# Altium footprint library exBoard.PcbLib: 28 footprints (part 1 of 2)
Each footprint in its own frame and in the unit in brackets; x right, y up, seen from the top. Pads: shape width x height; smd on the part's side, far side on the other; paste and mask are expansions set on the pad; w line width, h text height; cw(c..) or ccw(c..) is an arc to the next point about the centre after c.
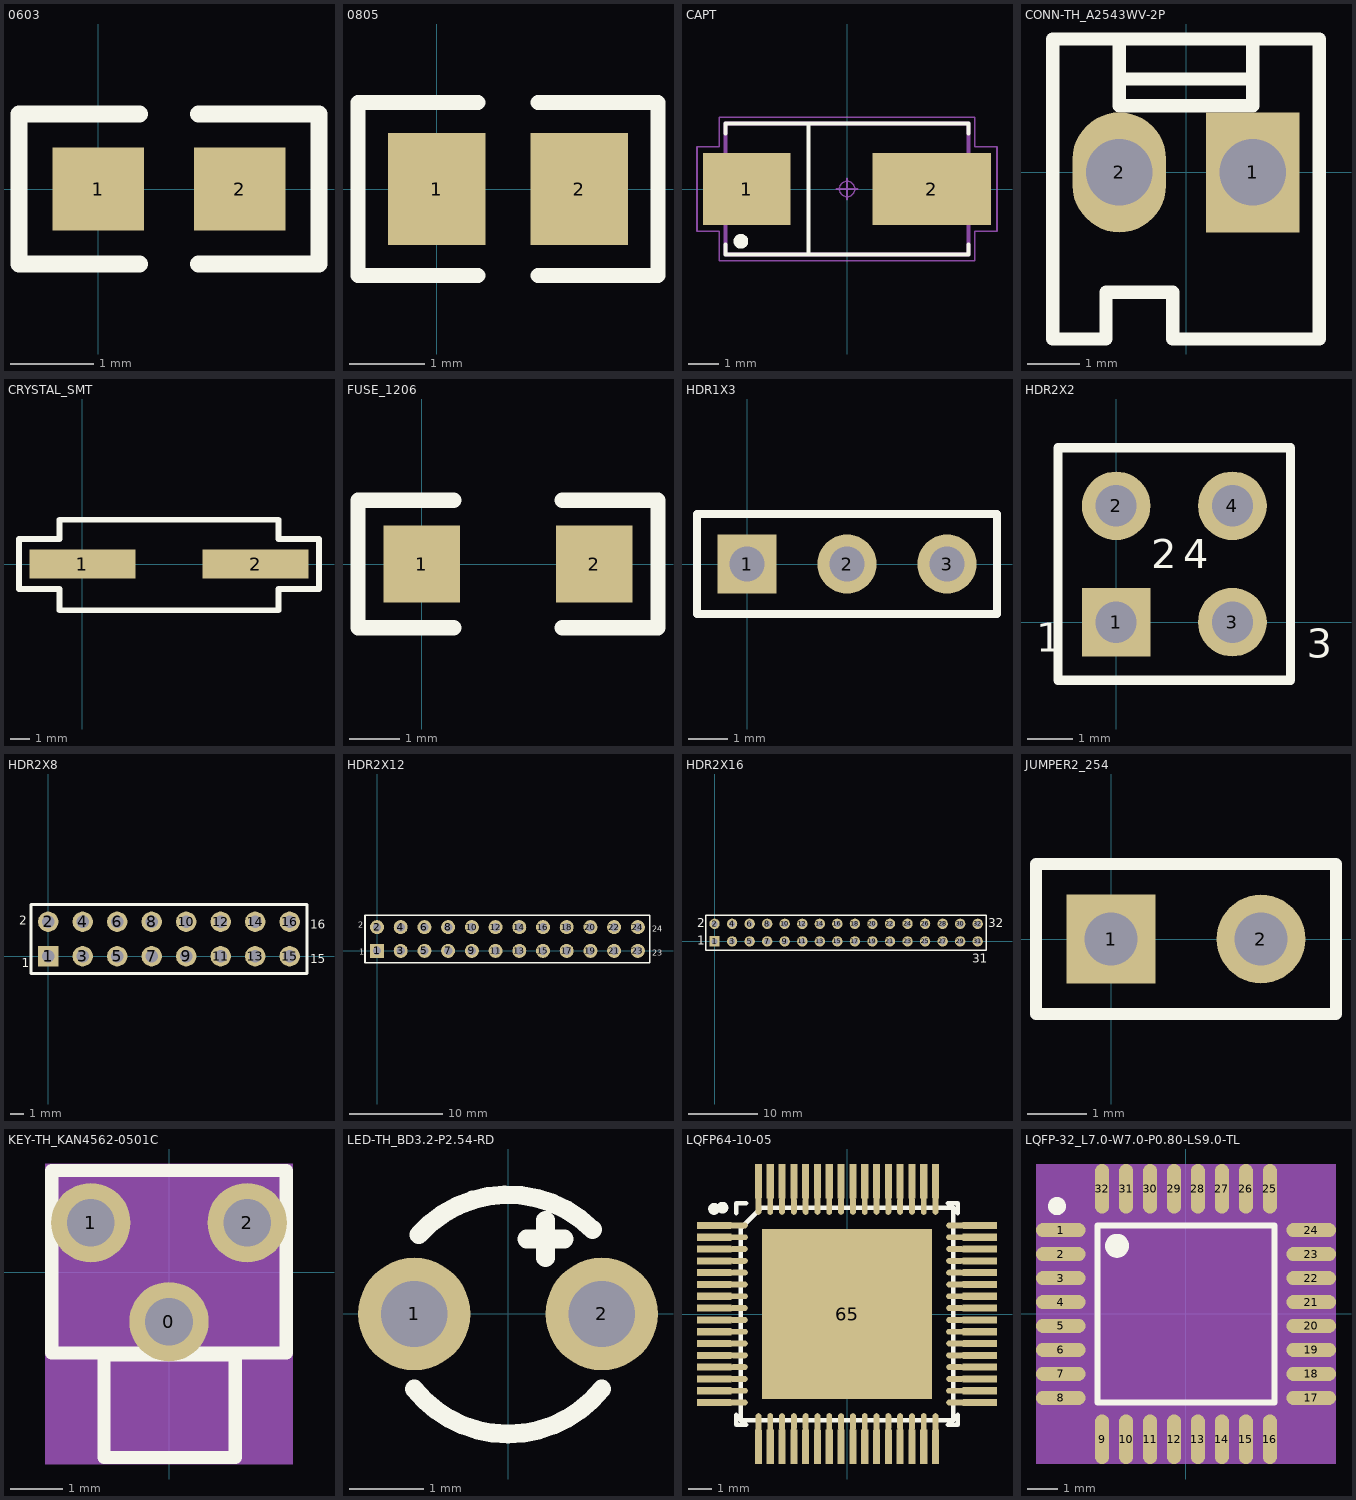
[diagram p0: the footprints below, top view; thin cyan lines are the x and y axes]

## 0603 [mm]
height 1
pads (2):
  rect 1.1x1 smd: 1(0,0) 2(1.7,0)
Top Overlay:
  lines w0.2: 0.5,-0.9 -0.95,-0.9 -0.95,0.9 0.5,0.9 ; 1.2,-0.9 2.65,-0.9 2.65,0.9 1.2,0.9

## 0805 [mm]
height 1
pads (2):
  rect 1.3x1.5 smd: 1(0,0) 2(1.9,0)
Top Overlay:
  lines w0.2: 0.55,-1.15 -1.05,-1.15 -1.05,1.15 0.55,1.15 ; 1.35,-1.15 2.95,-1.15 2.95,1.15 1.35,1.15

## CAPT [mm] "Capacitor, Polarized, Molded Body; 7.85 mm L X 4.20 mm W X 2.65 mm H body"
height 2.65
pads (2):
  rect 2.84x2.35 smd: 1(-3.255,0)
  rect 3.84x2.35 smd: 2(2.755,0)
Top Overlay:
  circle w0.254: c-3.45,-1.7 r0.112
  lines w0.12: -3.95,-1.8 -3.95,-2.13 3.95,-2.13 3.95,-1.8 ; -3.95,1.8 -3.95,2.13 3.95,2.13 3.95,1.8 ; -1.25,-2.13 -1.25,2.1
Mechanical 11:
  lines w0.12: -3.95,-2.13 -3.95,2.13 3.95,2.13 3.95,-2.13 -3.95,-2.13
Mechanical 12:
  lines w0.025: -4.125,-1.125 -2.025,-1.125 -2.025,1.125 -4.125,1.125 -4.125,-1.125 ; -3.925,-2.1 -3.925,2.1 3.925,2.1 3.925,-2.1 -3.925,-2.1 ; 1.025,-1.125 1.025,1.125 4.125,1.125 4.125,-1.125 1.025,-1.125
Mechanical 15:
  circle w0.05: c0,0 r0.25
  lines w0.05: -0.35,0 0.35,0 ; 0,-0.35 0,0.35 ; -4.875,-1.375 -4.875,1.375 -4.15,1.375 -4.15,2.33 4.15,2.33 4.15,1.375 4.875,1.375 4.875,-1.375 4.15,-1.375 4.15,-2.33 -4.15,-2.33 -4.15,-1.375 -4.875,-1.375
3D body: height 2, standoff 0, extent -3.81,-2.3 3.79,2.3

## CONN-TH_A2543WV-2P [mil]
pads (2):
  rect 70x90 hole 50: 1(50,0)
  oval 70x90 hole 50: 2(-50,0)
Top Overlay:
  lines w10: -50,70 50,70 ; -50,100 -50,50 50,50 50,100 ; -100,-125 -60,-125 -60,-90 -10,-90 -9.9,-125 100,-125 100,100 -100,100 -100,-125

## CRYSTAL_SMT [mm] "Surface Mount Crystal"
height 4.2
pads (2):
  rect 5.5x1.5 smd: 1(0,0) 2(9,0)
Top Overlay:
  lines w0.3: -3.3,-1.3 -1.2,-1.3 -1.2,-2.4 10.2,-2.4 10.2,-1.3 12.3,-1.3 12.3,1.3 10.2,1.3 10.2,2.3 -1.2,2.3 -1.2,1.3 -3.3,1.3 -3.3,-1.3

## FUSE_1206 [mil]
height 307.09
pads (2):
  rect 60x60 smd: 1(0,0) 2(135,0)
Top Overlay:
  lines w12: 25,-50 -50,-50 -50,50 25,50 ; 110,-50 185,-50 185,50 110,50

## HDR1X3 [mm] "Connector; Header; 3 Position"
pads (3):
  rect 1.5x1.5 hole 0.9: 1(0,0)
  round 1.5 hole 0.9: 2(2.54,0) 3(5.08,0)
Top Overlay:
  lines w0.2: -1.27,-1.27 -1.27,1.27 6.35,1.27 6.35,-1.27 -1.27,-1.27

## HDR2X2 [mm] "Connector; Header; 2x2 Position"
pads (4):
  rect 1.5x1.5 hole 0.9: 1(0,0)
  round 1.5 hole 0.9: 2(0,2.54) 3(2.54,0) 4(2.54,2.54)
Top Overlay:
  lines w0.2: -1.27,-1.27 -1.27,3.81 3.81,3.81 3.81,-1.27 -1.27,-1.27
  text "1" at -1.75,-0.649 h0.64
  text "2" at 0.766,1.176 h0.64
  text "4" at 1.465,1.176 h0.64
  text "3" at 4.167,-0.774 h0.64

## HDR2X8 [mm] "Connector; Header; 8x2 Position"
pads (16):
  rect 1.5x1.5 hole 0.9: 1(0,0)
  round 1.5 hole 0.9: 2(0,2.54) 3(2.54,0) 4(2.54,2.54) 5(5.08,0) 6(5.08,2.54) 7(7.62,0) 8(7.62,2.54) 9(10.16,0) 10(10.16,2.54) 11(12.7,0) 12(12.7,2.54) 13(15.24,0) 14(15.24,2.54) 15(17.78,0) 16(17.78,2.54)
Top Overlay:
  lines w0.2: -1.27,-1.27 19.05,-1.27 19.05,3.81 -1.27,3.81 -1.27,-1.27
  text "16" at 19.304,2.032 h0.64
  text "15" at 19.304,-0.508 h0.64
  text "1" at -1.947,-0.798 h0.64
  text "2" at -2.148,2.311 h0.64

## HDR2X12 [mm] "Connector; Header; 12x2 Position"
pads (24):
  rect 1.5x1.5 hole 0.9: 1(0,0)
  round 1.5 hole 0.9: 2(0,2.54) 3(2.54,0) 4(2.54,2.54) 5(5.08,0) 6(5.08,2.54) 7(7.62,0) 8(7.62,2.54) 9(10.16,0) 10(10.16,2.54) 11(12.7,0) 12(12.7,2.54) 13(15.24,0) 14(15.24,2.54) 15(17.78,0) 16(17.78,2.54) 17(20.32,0) 18(20.32,2.54) 19(22.86,0) 20(22.86,2.54) 21(25.4,0) 22(25.4,2.54) 23(27.94,0) 24(27.94,2.54)
Top Overlay:
  lines w0.2: -1.27,-1.27 29.21,-1.27 29.21,3.81 -1.27,3.81 -1.27,-1.27
  text "24" at 29.464,2.032 h0.64
  text "23" at 29.464,-0.508 h0.64
  text "2" at -2.036,2.497 h0.64
  text "1" at -1.923,-0.392 h0.64

## HDR2X16 [mm] "Connector; Header; 16x2 Position"
pads (32):
  rect 1.5x1.5 hole 0.9: 1(0,0)
  round 1.5 hole 0.9: 2(0,2.54) 3(2.54,0) 4(2.54,2.54) 5(5.08,0) 6(5.08,2.54) 7(7.62,0) 8(7.62,2.54) 9(10.16,0) 10(10.16,2.54) 11(12.7,0) 12(12.7,2.54) 13(15.24,0) 14(15.24,2.54) 15(17.78,0) 16(17.78,2.54) 17(20.32,0) 18(20.32,2.54) 19(22.86,0) 20(22.86,2.54) 21(25.4,0) 22(25.4,2.54) 23(27.94,0) 24(27.94,2.54) 25(30.48,0) 26(30.48,2.54) 27(33.02,0) 28(33.02,2.54) 29(35.56,0) 30(35.56,2.54) 31(38.1,0) 32(38.1,2.54)
Top Overlay:
  lines w0.2: -1.27,-1.27 39.37,-1.27 39.37,3.81 -1.27,3.81 -1.27,-1.27
  text "2" at -2.54,2.032 h1.27
  text "1" at -2.54,-0.508 h1.27
  text "31" at 37.308,-3.114 h1.27
  text "32" at 39.624,2.032 h1.27

## JUMPER2_254 [mm]
height 8
pads (2):
  rect 1.5x1.5 hole 0.9: 1(0,0)
  round 1.5 hole 0.9: 2(2.54,0)
Top Overlay:
  lines w0.2: -1.27,-1.27 3.81,-1.27 3.81,1.27 -1.27,1.27 -1.27,-1.27

## KEY-TH_KAN4562-0501C [mil]
pads (3):
  round 60 hole 36: 0(-0.01,-37.4) 1(-59.05,37.4) 2(59.05,37.4)
Top Overlay:
  lines w10: -88.58,-61.03 -88.58,76.77 88.58,76.77 88.58,-61.03 -88.58,-61.03 ; -49.22,-140 -49.22,-62.6 50.01,-62.6 50.01,-140 -49.22,-140
Mechanical 4:
  region: -93.58,81.77 93.58,81.77 93.58,-145 -93.58,-145
Mechanical 5:
  region: -30,-7.4 30,-7.4 30,-67.4 -30,-67.4
  region: 29.05,67.4 89.06,67.4 89.06,7.4 29.05,7.4
  region: -89.06,67.4 -29.05,67.4 -29.05,7.4 -89.06,7.4

## LED-TH_BD3.2-P2.54-RD [mil]
pads (2):
  round 60 hole 35.43: 1(-50,0) 2(50,0)
Top Overlay:
  lines w10: -50,-40 ccw(c0,0) 50,-40 ; -47.56,42.28 cw(c0,0) 45,45 ; 10,40 30,40 ; 20,30 20,50

## LQFP64-10-05 [mm] "LQFP64 10 x 10 x 1.4mm"
height 1.4
pads (129):
  rect 1.45x0.3 smd: 1(-5.625,3.75) 2(-5.625,3.25) 3(-5.625,2.75) 4(-5.625,2.25) 5(-5.625,1.75) 6(-5.625,1.25) 7(-5.625,0.75) 8(-5.625,0.25) 9(-5.625,-0.25) 10(-5.625,-0.75) 11(-5.625,-1.25) 12(-5.625,-1.75) 13(-5.625,-2.25) 14(-5.625,-2.75) 15(-5.625,-3.25) 16(-5.625,-3.75) 33(5.625,-3.75) 34(5.625,-3.25) 35(5.625,-2.75) 36(5.625,-2.25) 37(5.625,-1.75) 38(5.625,-1.25) 39(5.625,-0.75) 40(5.625,-0.25) 41(5.625,0.25) 42(5.625,0.75) 43(5.625,1.25) 44(5.625,1.75) 45(5.625,2.25) 46(5.625,2.75) 47(5.625,3.25) 48(5.625,3.75)
  oval 0.75x0.25 smd: 1(-4.575,3.75) 2(-4.575,3.25) 3(-4.575,2.75) 4(-4.575,2.25) 5(-4.575,1.75) 6(-4.575,1.25) 7(-4.575,0.75) 8(-4.575,0.25) 9(-4.575,-0.25) 10(-4.575,-0.75) 11(-4.575,-1.25) 12(-4.575,-1.75) 13(-4.575,-2.25) 14(-4.575,-2.75) 15(-4.575,-3.25) 16(-4.575,-3.75) 33(4.575,-3.75) 34(4.575,-3.25) 35(4.575,-2.75) 36(4.575,-2.25) 37(4.575,-1.75) 38(4.575,-1.25) 39(4.575,-0.75) 40(4.575,-0.25) 41(4.575,0.25) 42(4.575,0.75) 43(4.575,1.25) 44(4.575,1.75) 45(4.575,2.25) 46(4.575,2.75) 47(4.575,3.25) 48(4.575,3.75)
  oval 0.25x0.75 smd: 17(-3.75,-4.575) 18(-3.25,-4.575) 19(-2.75,-4.575) 20(-2.25,-4.575) 21(-1.75,-4.575) 22(-1.25,-4.575) 23(-0.75,-4.575) 24(-0.25,-4.575) 25(0.25,-4.575) 26(0.75,-4.575) 27(1.25,-4.575) 28(1.75,-4.575) 29(2.25,-4.575) 30(2.75,-4.575) 31(3.25,-4.575) 32(3.75,-4.575) 49(3.75,4.575) 50(3.25,4.575) 51(2.75,4.575) 52(2.25,4.575) 53(1.75,4.575) 54(1.25,4.575) 55(0.75,4.575) 56(0.25,4.575) 57(-0.25,4.575) 58(-0.75,4.575) 59(-1.25,4.575) 60(-1.75,4.575) 61(-2.25,4.575) 62(-2.75,4.575) 63(-3.25,4.575) 64(-3.75,4.575)
  rect 0.3x1.45 smd: 17(-3.75,-5.625) 18(-3.25,-5.625) 19(-2.75,-5.625) 20(-2.25,-5.625) 21(-1.75,-5.625) 22(-1.25,-5.625) 23(-0.75,-5.625) 24(-0.25,-5.625) 25(0.25,-5.625) 26(0.75,-5.625) 27(1.25,-5.625) 28(1.75,-5.625) 29(2.25,-5.625) 30(2.75,-5.625) 31(3.25,-5.625) 32(3.75,-5.625) 49(3.75,5.625) 50(3.25,5.625) 51(2.75,5.625) 52(2.25,5.625) 53(1.75,5.625) 54(1.25,5.625) 55(0.75,5.625) 56(0.25,5.625) 57(-0.25,5.625) 58(-0.75,5.625) 59(-1.25,5.625) 60(-1.75,5.625) 61(-2.25,5.625) 62(-2.75,5.625) 63(-3.25,5.625) 64(-3.75,5.625)
  rect 7.2x7.2 smd: 65(0,0)
Top Overlay:
  circle w0.25: c-5.625,4.45 r0.125
  lines w0.2: -4.69,-4.275 -4.69,-4.69 -4.275,-4.69 ; -4.69,4.275 -4.69,4.69 -4.275,4.69 ; 4.275,-4.69 4.69,-4.69 4.69,-4.275 ; 4.275,4.69 4.69,4.69 4.69,4.275 ; -4.5,-4.5 -4.5,3.625 -3.625,4.5 4.5,4.5 4.5,-4.5 -4.5,-4.5
  lines w0.249: -5.15,4.498 cw(c-5.274,4.499) -5.15,4.5

## LQFP-32_L7.0-W7.0-P0.80-LS9.0-TL [mm]
pads (32):
  oval 1.65x0.48 smd: 1(-4.176,2.799) 2(-4.176,1.999) 3(-4.176,1.199) 4(-4.176,0.399) 5(-4.176,-0.399) 6(-4.176,-1.199) 7(-4.176,-1.999) 8(-4.176,-2.799) 17(4.176,-2.799) 18(4.176,-1.999) 19(4.176,-1.199) 20(4.176,-0.399) 21(4.176,0.399) 22(4.176,1.199) 23(4.176,1.999) 24(4.176,2.799)
  oval 0.48x1.65 smd: 9(-2.799,-4.176) 10(-1.999,-4.176) 11(-1.199,-4.176) 12(-0.399,-4.176) 13(0.399,-4.176) 14(1.199,-4.176) 15(1.999,-4.176) 16(2.799,-4.176) 25(2.799,4.176) 26(1.999,4.176) 27(1.199,4.176) 28(0.399,4.176) 29(-0.399,4.176) 30(-1.199,4.176) 31(-1.999,4.176) 32(-2.799,4.176)
Top Overlay:
  lines w0.2: -2.95,-2.95 2.95,-2.95 2.95,2.95 -2.95,2.95 -2.95,-2.95
  lines w0.3: -4.15,3.597 cw(c-4.3,3.598) -4.15,3.599
  lines w0.4: -2.101,2.271 cw(c-2.3,2.273) -2.101,2.276
Mechanical 4:
  region: -5.001,5.001 5.001,5.001 5.001,-5.001 -5.001,-5.001
Mechanical 5:
  region: -5.001,3.039 -3.351,3.039 -3.351,2.559 -5.001,2.559
  region: -5.001,2.239 -3.351,2.239 -3.351,1.759 -5.001,1.759
  region: -5.001,1.439 -3.351,1.439 -3.351,0.959 -5.001,0.959
  region: -5.001,0.639 -3.351,0.639 -3.351,0.159 -5.001,0.159
  region: -5.001,-0.159 -3.351,-0.159 -3.351,-0.639 -5.001,-0.639
  region: -5.001,-0.959 -3.351,-0.959 -3.351,-1.439 -5.001,-1.439
  region: -5.001,-1.759 -3.351,-1.759 -3.351,-2.239 -5.001,-2.239
  region: -5.001,-2.559 -3.351,-2.559 -3.351,-3.039 -5.001,-3.039
  region: -3.039,-3.351 -2.559,-3.351 -2.559,-5.001 -3.039,-5.001
  region: -2.239,-3.351 -1.759,-3.351 -1.759,-5.001 -2.239,-5.001
  region: -1.439,-3.351 -0.959,-3.351 -0.959,-5.001 -1.439,-5.001
  region: -0.639,-3.351 -0.159,-3.351 -0.159,-5.001 -0.639,-5.001
  region: 0.159,-3.351 0.639,-3.351 0.639,-5.001 0.159,-5.001
  region: 0.959,-3.351 1.439,-3.351 1.439,-5.001 0.959,-5.001
  region: 1.759,-3.351 2.239,-3.351 2.239,-5.001 1.759,-5.001
  region: 2.559,-3.351 3.039,-3.351 3.039,-5.001 2.559,-5.001
  region: 3.351,-2.559 5.001,-2.559 5.001,-3.039 3.351,-3.039
  region: 3.351,-1.759 5.001,-1.759 5.001,-2.239 3.351,-2.239
  region: 3.351,-0.959 5.001,-0.959 5.001,-1.439 3.351,-1.439
  region: 3.351,-0.159 5.001,-0.159 5.001,-0.639 3.351,-0.639
  region: 3.351,0.639 5.001,0.639 5.001,0.159 3.351,0.159
  region: 3.351,1.439 5.001,1.439 5.001,0.959 3.351,0.959
  region: 3.351,2.239 5.001,2.239 5.001,1.759 3.351,1.759
  region: 3.351,3.039 5.001,3.039 5.001,2.559 3.351,2.559
  region: 2.559,5.001 3.039,5.001 3.039,3.351 2.559,3.351
  region: 1.759,5.001 2.239,5.001 2.239,3.351 1.759,3.351
  region: 0.959,5.001 1.439,5.001 1.439,3.351 0.959,3.351
  region: 0.159,5.001 0.639,5.001 0.639,3.351 0.159,3.351
  region: -0.639,5.001 -0.159,5.001 -0.159,3.351 -0.639,3.351
  region: -1.439,5.001 -0.959,5.001 -0.959,3.351 -1.439,3.351
  region: -2.239,5.001 -1.759,5.001 -1.759,3.351 -2.239,3.351
  region: -3.039,5.001 -2.559,5.001 -2.559,3.351 -3.039,3.351